# EAGLE library part BNO055_BREAKOUT (library scono)
Adafruit breakout for BNO055
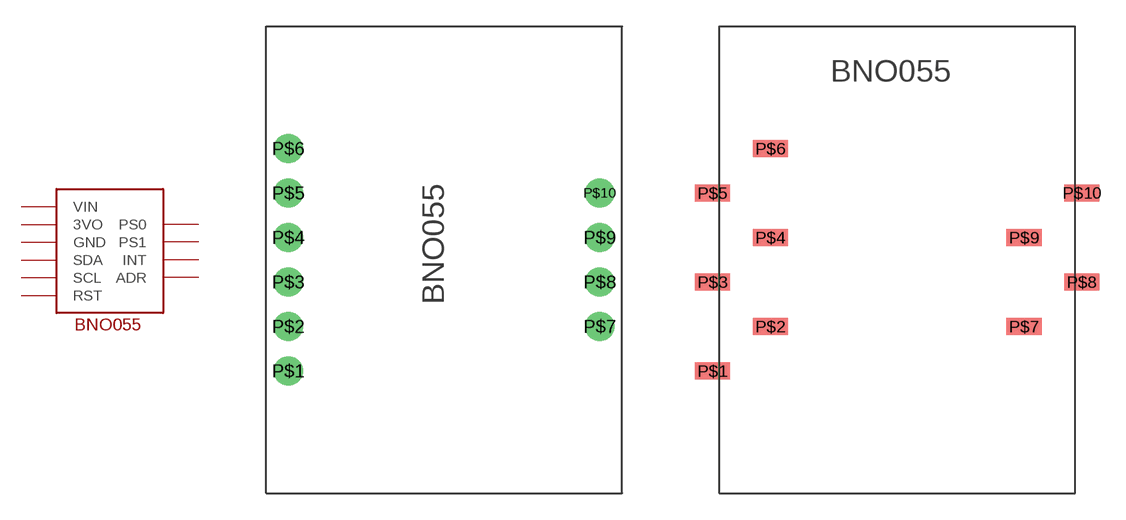
[diagram p9: symbol with the pads of BNO055_BREAKOUT; footprints BNO055_BREAKOUT, BNO055_BREAKOUT_SMT]

Designator prefix -

## BNO055_BREAKOUTTHRU  [BNO055_BREAKOUT]
P$1  RST
P$2  SCL
P$3  SDA
P$4  GND
P$5  3VO
P$6  VIN
P$7  ADR
P$8  INT
P$9  PS1
P$10  PS0

## BNO055_BREAKOUTSMT  [BNO055_BREAKOUT_SMT]
Pads as for BNO055_BREAKOUT

## Footprint BNO055_BREAKOUT (pad centres in mm)
drill 0.8 pad 1.676: P$1 0,0; P$2 0,2.54; P$3 0,5.08; P$4 0,7.62; P$5 0,10.16; P$6 0,12.7; P$7 17.78,2.54; P$8 17.78,5.08; P$9 17.78,7.62; P$10 17.78,10.16

## Footprint BNO055_BREAKOUT_SMT (pad centres in mm)
SMT Package for BNO055. Use S5637-ND and S5635-ND
smd 2.007 x 0.991: P$1 -10.541,-6.35; P$2 -7.239,-3.81; P$3 -10.541,-1.27; P$4 -7.239,1.27; P$5 -10.541,3.81; P$6 -7.239,6.35; P$7 7.239,-3.81; P$8 10.541,-1.27; P$9 7.239,1.27; P$10 10.541,3.81